# EAGLE library part 5EHDRC-6P (library ipas)
Dinkle Headers(Sockets) for pluggable terminal blocks / ECH & EHD series TERMINAL BLOCK, 300V/15A
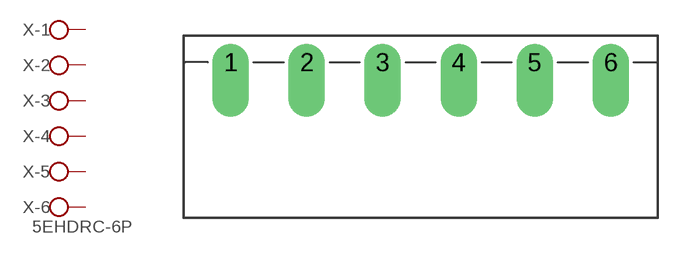
[diagram p2: symbol with the pads of 5EHDRC-6P; footprint 5EHDRC-6P]

Designator prefix X; gates -1=KL -2=KL -3=KL -4=KL -5=KL -6=KL+V

## 5EHDRC-6P  [5EHDRC-6P]
1  -1:KL  pas
2  -2:KL  pas
3  -3:KL  pas
4  -4:KL  pas
5  -5:KL  pas
6  -6:KL  pas

## Footprint 5EHDRC-6P (pad centres in mm)
Dinkle 5EHDRC Pitch: 5.00mm Headers(Sockets) for pluggable terminal blocks / ECH & EHD series
drill 1.6 offset: 1 -12.5,0; 2 -7.5,0; 3 -2.5,0; 4 2.5,0; 5 7.5,0; 6 12.5,0